# EAGLE library part SWITCH_RXTX (library switch)
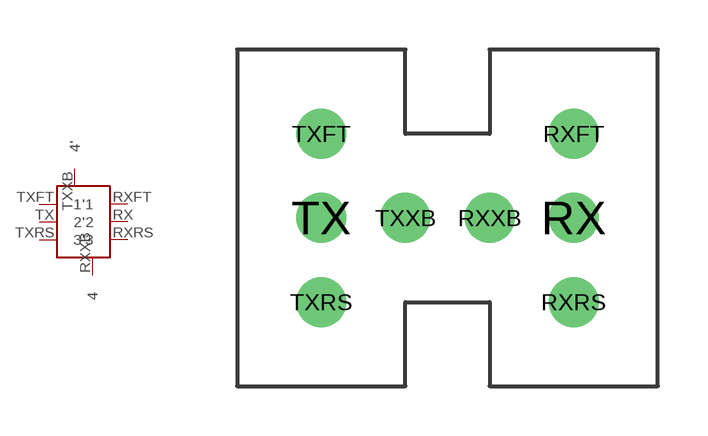
[diagram p2: symbol with the pads of SWITCH_RXTX; footprint SWITCH_RXTX]

Designator prefix -

## SWITCH_RXTX  [SWITCH_RXTX]
RX  2
RXFT  1
RXRS  3
RXXB  4
TX  2'
TXFT  1'
TXRS  3'
TXXB  4'

## Footprint SWITCH_RXTX (pad centres in mm)
drill 1: RX -12.7,7.62; RXFT -12.7,10.16; RXRS -12.7,5.08; RXXB -15.24,7.62; TX -20.32,7.62; TXFT -20.32,10.16; TXRS -20.32,5.08; TXXB -17.78,7.62